# EAGLE library part TPS72501_KTT_5 (library TPS72501_KTT_5)
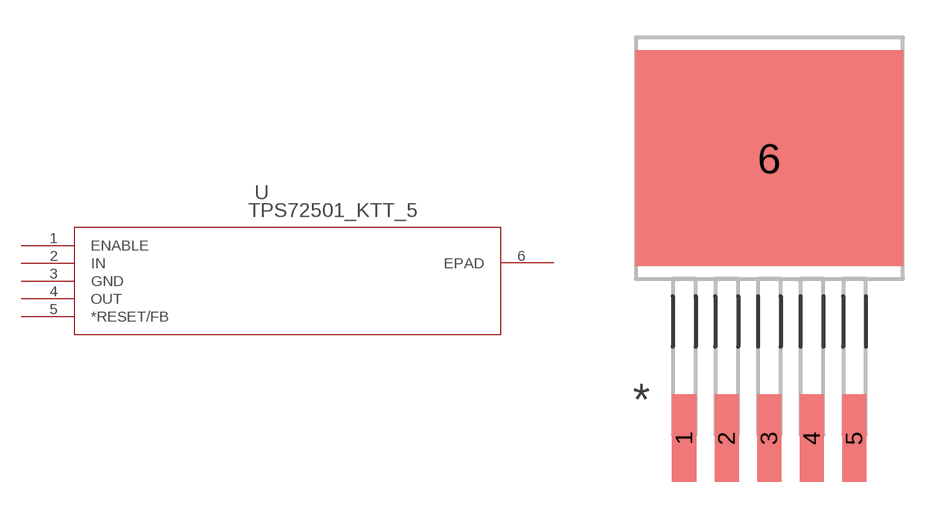
[diagram p0: symbol with the pads of KTT5_6P22X6P86; footprint KTT5_6P22X6P86]

Designator prefix -

## TPS72501_KTT_5 (DATASHEETURL: http://www.ti.com/lit/gpn/TPS72501; DESCRIPTION: Single Output LDO, 1.0A, Adj.(1.22 to 5.5V), Any cap, Low Input Voltage, Integrated SVS; FAMILY_NAME: SINGLE CHANNEL LDO; GENERIC_PART_NUMBER: TPS72501; INDUSTRY_STD_PKG_TYPE: DDPAK/TO-263; MANUFACTURER: Texas Instruments; MANUFACTURER_PART_NUMBER: tps72501_ktt_5; PACKAGE_DESIGNATOR: KTT; PIN_COUNT: 5; VENDOR: Texas Instruments)  [KTT5_6P22X6P86]
1  ENABLE  pas
2  IN  in
3  GND  pwr
4  OUT  out
5  *RESET/FB  pas
6  EPAD  pas

## Footprint KTT5_6P22X6P86 (pad centres in mm)
smd 0.965 x 3.505: 1 -3.405,-11.192; 2 -1.705,-11.192; 3 -0.005,-11.192; 4 1.695,-11.192; 5 3.395,-11.192
smd 10.719 x 8.632: 6 0,0